# EAGLE library part MOLEX_SL_17 (library molex-sl-connectors_jw)
Molex SL-Series PCB Header, 17-Pos, 0.1" (2.54mm) Centers
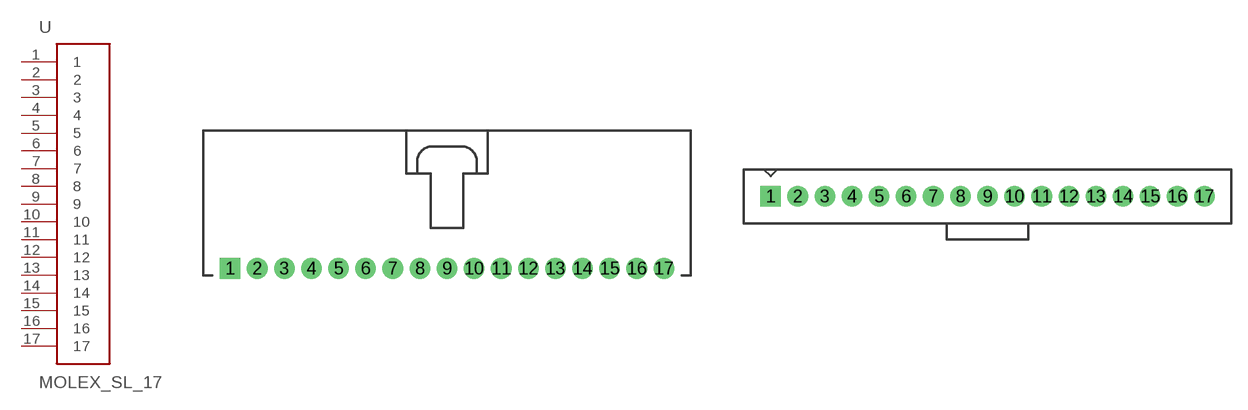
[diagram p11: symbol with the pads of SL_70553_17; footprints SL_70553_17, SL_70543_17]

Designator prefix -

## MOLEX_SL_17-70553  [SL_70553_17]
1  1
2  2
3  3
4  4
5  5
6  6
7  7
8  8
9  9
10  10
11  11
12  12
13  13
14  14
15  15
16  16
17  17

## MOLEX_SL_17-70543-74095  [SL_70543_17]
Pads as for SL_70553_17

## MOLEX_SL_17-70541-70545  [SL_70541_17]
Pads as for SL_70553_17

## MOLEX_SL_17-70551  [SL_70551_17]
Pads as for SL_70553_17

## MOLEX_SL_17-70555  [SL_70555_17]
Pads as for SL_70553_17

## MOLEX_SL_17-70634  [SL_70634_17]
Pads as for SL_70553_17

## MOLEX_SL_17-87898  [SL_87898_17]
Pads as for SL_70553_17

## Footprint SL_70553_17 (pad centres in mm)
Right-Angle Header w/ Latch (no pegs) 70553-0016 70553-0051 70553-0121 70553-0156
drill 1.1 pad 1.93 square: 1 -20.32,-5.08
drill 1.1 pad 1.93: 2 -17.78,-5.08; 3 -15.24,-5.08; 4 -12.7,-5.08; 5 -10.16,-5.08; 6 -7.62,-5.08; 7 -5.08,-5.08; 8 -2.54,-5.08; 9 0,-5.08; 10 2.54,-5.08; 11 5.08,-5.08; 12 7.62,-5.08; 13 10.16,-5.08; 14 12.7,-5.08; 15 15.24,-5.08; 16 17.78,-5.08; 17 20.32,-5.08

## Footprint SL_70543_17 (pad centres in mm)
Vertical Header w/ Latch & Optional Compliant Pins (no pegs) Normal Pins: 70543-0016 70543-0051 70543-0086 70543-0121 70543-0156 70543-0180 70543-0215 70543-0263 70543-0287 70543-0311 Compliant Pins 74095-0017 74095-0047 74095-0077 74095-1047 74095-1077
drill 1.1 pad 1.93 square: 1 -20.32,1.27
drill 1.1 pad 1.93: 2 -17.78,1.27; 3 -15.24,1.27; 4 -12.7,1.27; 5 -10.16,1.27; 6 -7.62,1.27; 7 -5.08,1.27; 8 -2.54,1.27; 9 0,1.27; 10 2.54,1.27; 11 5.08,1.27; 12 7.62,1.27; 13 10.16,1.27; 14 12.7,1.27; 15 15.24,1.27; 16 17.78,1.27; 17 20.32,1.27

## Footprint SL_70541_17 (pad centres in mm)
Vertical Header w/ Latch & Pegs With Split Pegs: 70541-0016 70541-0051 70541-0086 With Tri-Pegs: 70545-0016 70545-0051 70545-0086
drill 1.1 pad 1.93 square: 1 -20.32,1.27
drill 1.1 pad 1.93: 2 -17.78,1.27; 3 -15.24,1.27; 4 -12.7,1.27; 5 -10.16,1.27; 6 -7.62,1.27; 7 -5.08,1.27; 8 -2.54,1.27; 9 0,1.27; 10 2.54,1.27; 11 5.08,1.27; 12 7.62,1.27; 13 10.16,1.27; 14 12.7,1.27; 15 15.24,1.27; 16 17.78,1.27; 17 20.32,1.27
hole 3.404 at -24.384,0.508
hole 3.404 at 24.384,0.508

## Footprint SL_70551_17 (pad centres in mm)
Right-Angle Header w/ Latch & Split Pegs 70551-0016 70551-0051 70551-0086
drill 1.1 pad 1.93 square: 1 -20.32,-5.08
drill 1.1 pad 1.93: 2 -17.78,-5.08; 3 -15.24,-5.08; 4 -12.7,-5.08; 5 -10.16,-5.08; 6 -7.62,-5.08; 7 -5.08,-5.08; 8 -2.54,-5.08; 9 0,-5.08; 10 2.54,-5.08; 11 5.08,-5.08; 12 7.62,-5.08; 13 10.16,-5.08; 14 12.7,-5.08; 15 15.24,-5.08; 16 17.78,-5.08; 17 20.32,-5.08
hole 3.404 at -21.59,3.556
hole 3.404 at 21.59,3.556

## Footprint SL_70555_17 (pad centres in mm)
Right-Angle Header w/ Latch & Tri-Pegs 70555-0016 70555-0051 70555-0086 70555-5016
drill 1.1 pad 1.93 square: 1 -20.32,-5.08
drill 1.1 pad 1.93: 2 -17.78,-5.08; 3 -15.24,-5.08; 4 -12.7,-5.08; 5 -10.16,-5.08; 6 -7.62,-5.08; 7 -5.08,-5.08; 8 -2.54,-5.08; 9 0,-5.08; 10 2.54,-5.08; 11 5.08,-5.08; 12 7.62,-5.08; 13 10.16,-5.08; 14 12.7,-5.08; 15 15.24,-5.08; 16 17.78,-5.08; 17 20.32,-5.08
hole 3.404 at -21.717,3.556
hole 3.404 at 21.717,3.556

## Footprint SL_70634_17 (pad centres in mm)
SMD Right-Angle Header w/ Latch & PCB Pegs 70634-0016 70634-0051 70634-0086 70634-0121 70634-0156 70634-0191 70634-0217
smd 1.651 x 5.334: 1 -20.32,-7.62; 2 -17.78,-7.62; 3 -15.24,-7.62; 4 -12.7,-7.62; 5 -10.16,-7.62; 6 -7.62,-7.62; 7 -5.08,-7.62; 8 -2.54,-7.62; 9 0,-7.62; 10 2.54,-7.62; 11 5.08,-7.62; 12 7.62,-7.62; 13 10.16,-7.62; 14 12.7,-7.62; 15 15.24,-7.62; 16 17.78,-7.62; 17 20.32,-7.62
hole 3.404 at -21.742,3.048
hole 3.404 at 21.717,3.099

## Footprint SL_87898_17 (pad centres in mm)
SMD Vertical Header (no latch or pegs) Package also includes Pick-N-Place Cap Tube packaging w/o Pick-N-Place Cap: 87898-1721 87898-1722 87898-1724 87898-1725 87898-1726 Tube packaging w/ Pick-N-Place Cap: 87898-1731 87898-1732 87898-1734 87898-1735 87898-1736 Tape & Reel packaging w/ Pick-N-Place Cap: 87898-1751 87898-1752 87898-1754 87898-1755 87898-1756
smd 1.27 x 2.946: 1 -20.32,1.803; 2 -17.78,-1.803; 3 -15.24,1.803; 4 -12.7,-1.803; 5 -10.16,1.803; 6 -7.62,-1.803; 7 -5.08,1.803; 8 -2.54,-1.803; 9 0,1.803; 10 2.54,-1.803; 11 5.08,1.803; 12 7.62,-1.803; 13 10.16,1.803; 14 12.7,-1.803; 15 15.24,1.803; 16 17.78,-1.803; 17 20.32,1.803